# EAGLE library part HX_JN1.27-2X5P_ZZ_H4.9_LCSC (library lcsc_parts)
Description: Connector IDC Header Through Hole 10 position 1.27mm Manufacturer: hanxia MPN: HX JN1.27-2x5P ZZ H4.9 LCSC Part: C42372547 Category: Free Hanging, Panel Mount Datasheet: https://datasheet.lcsc.com/datasheet/pdf/8f99310b48716c51fbb5dae150a254e7.pdf?productCode=C42372547
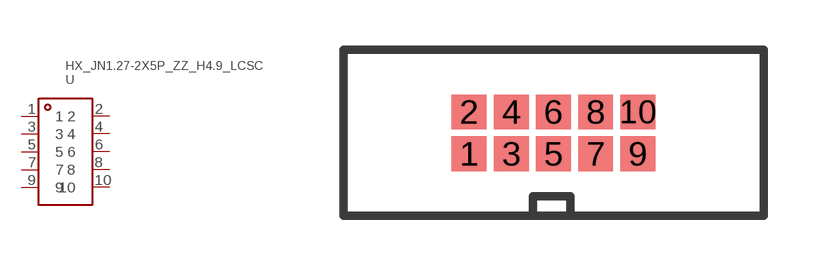
[diagram p23: symbol with the pads of CONN-TH_10P-P1.27_HX-JN1.27-2X5P-ZZ-H4.9; footprint CONN-TH_10P-P1.27_HX-JN1.27-2X5P-ZZ-H4.9]

Designator prefix U

## HX_JN1.27-2X5P_ZZ_H4.9_LCSC (CATEGORY: Free Hanging, Panel Mount; COLOUR: Black; CONNECTOR_TYPE: IDC Header; CONTACT_MATERIAL: Copper; CONTACT_PLATING: Gold; CURRENT_RATING: 1A; DATASHEET: https://datasheet.lcsc.com/datasheet/pdf/8f99310b48716c51fbb5dae150a254e7.pdf?productCode=C42372547; DESCRIPTION: Connector IDC Header Through Hole 10 position 1.27mm; LCSC_PART: C42372547; LCSC_STOCK: 7160; MANUFACTURER: hanxia; MOUNTING_TYPE: Through Hole; MPN: HX JN1.27-2x5P ZZ H4.9; NUMBER_OF_PINS_PER_ROW: 5; NUMBER_OF_POSITIONS_OR_PINS: 2x5P; NUMBER_OF_ROWS: 2; OPERATING_TEMPERATURE: -40℃~+105℃; PARTNO: HX JN1.27-2x5P ZZ H4.9; PITCH: 1.27mm; PRICING_1000: $0.095/unit @ 1000; PRICING_50: $0.1308/unit @ 50; ROW_SPACING: 1.27mm; VOLTAGE_RATING: 500V)  [CONN-TH_10P-P1.27_HX-JN1.27-2X5P-ZZ-H4.9]
1  1
2  2
3  3
4  4
5  5
6  6
7  7
8  8
9  9
10  10

## Footprint CONN-TH_10P-P1.27_HX-JN1.27-2X5P-ZZ-H4.9 (pad centres in mm)
smd 1.05 x 1.05: 1 -2.54,-0.63; 2 -2.54,0.63; 3 -1.27,-0.63; 4 -1.27,0.63; 5 0,-0.63; 6 0,0.63; 7 1.27,-0.63; 8 1.27,0.63; 9 2.54,-0.63; 10 2.54,0.63